# Altium integrated library USB3090-XX-X_REVE.IntLib: 1 symbol
Pins are listed as number, name and electrical type; pins without a type are passive.

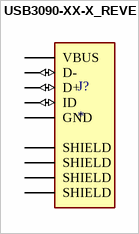
[diagram p0: symbol USB3090-XX-X_REVE]

## USB3090-XX-X_REVE
designator J?
Micro USB Receptacle, Type AB, SMT, R/A, Bottom Mount, w/out Peg, w/outer shell stakes; MP: USB3090-XX-X_REVE; Package: None; Price: None; Value: *; Availability: Unavailable
footprint GCT_USB3090-XX-X_REVE
pins: 1 VBUS (power), 2 D- (io), 3 D+ (io), 4 ID (io), 5 GND (power), 6 SHIELD (power), 7 SHIELD (power), 8 SHIELD (power), 9 SHIELD (power)